# Altium schematic symbol library Connector.SchLib: 10 symbols
Pins are listed as number, name and electrical type; pins without a type are passive.

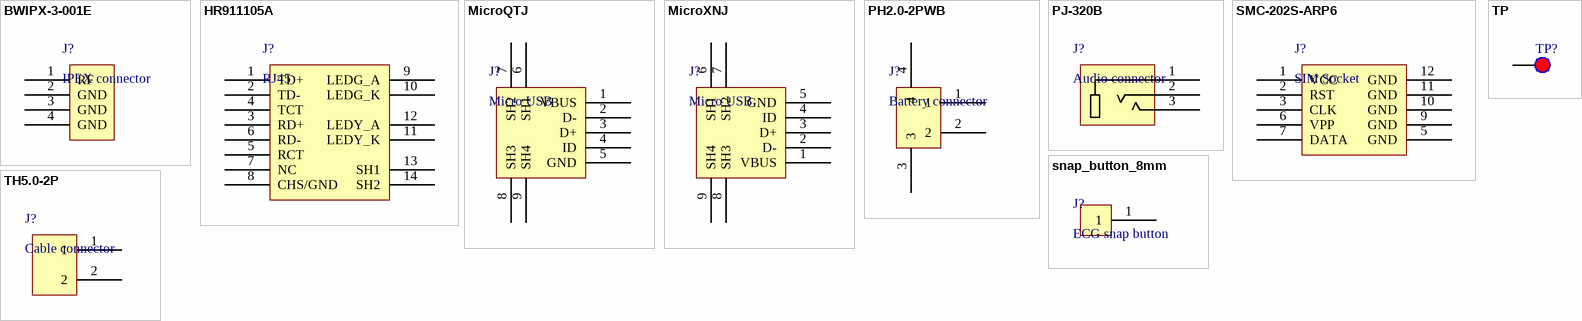
[diagram p0: symbols BWIPX-3-001E to TP]

## BWIPX-3-001E
designator J?, comment IPEX connector
ComponentLink1Description: Supplier; ComponentLink1URL: https://item.szlcsc.com/839642.html; Supplier: LC; SuppliersPartNumber: C784400; Package: SMD-IPEX
footprint smd-ipex
pins: 1 RF, 2 GND, 3 GND, 4 GND

## HR911105A
designator J?, comment RJ45
Package: SMD-MicorUSB-Hold; Supplier: LC; SuppliersPartNumber: C12074; ComponentLink1Description: Supplier; ComponentLink1URL: https://item.szlcsc.com/12651.html
footprint RJ45-TH
pins: 1 TD+, 2 TD-, 3 RD+, 4 TCT, 5 RCT, 6 RD-, 7 NC, 8 CHS/GND, 9 LEDG_A, 10 LEDG_K, 11 LEDY_K, 12 LEDY_A, 13 SH1, 14 SH2

## MicroQTJ
designator J?, comment Micro USB
Micro USB SMD; Package: SMD-MicorUSB-Hold; Supplier: LC; SuppliersPartNumber: C404968; ComponentLink1Description: Supplier; ComponentLink1URL: https://item.szlcsc.com/392533.html
footprint SMD-MicorUSB-hold
pins: 1 VBUS, 2 D-, 3 D+, 4 ID, 5 GND, 6 SH1, 7 SH2, 8 SH3, 9 SH4

## MicroXNJ
designator J?, comment Micro USB
Package: SMD-MicorUSB; Supplier: LC; SuppliersPartNumber: C404969; ComponentLink1Description: Supplier; ComponentLink1URL: https://item.szlcsc.com/392534.html
footprint SMD-MicorUSB
pins: 1 VBUS, 2 D-, 3 D+, 4 ID, 5 GND, 6 SH1, 7 SH2, 8 SH3, 9 SH4

## PH2.0-2PWB
designator J?, comment Battery connector
ComponentLink1Description: Supplier; ComponentLink1URL: https://item.szlcsc.com/48652.html; Supplier: LC; SuppliersPartNumber: C47647; Package: PH2.0-2PWB
footprint PH2.0-2PWB
pins: 1, 2, 3, 4

## PJ-320B
designator J?, comment Audio connector
ComponentLink1Description: Supplier; ComponentLink1URL: https://item.szlcsc.com/19296.html; Supplier: LC; SuppliersPartNumber: C18594; Package: Audio-SMD
footprint Audio_SMD
footprint Audio_SMD_NO_HOLD
pins: 1, 2, 3

## SMC-202S-ARP6
designator J?, comment SIM Socket
Cable connector; ComponentLink1Description: Supplier; ComponentLink1URL: https://item.szlcsc.com/998484.html; Supplier: LC; SuppliersPartNumber: C920199; Package: SMD-Micro-SIM-6P
footprint SMD-Micro-SIM-6P
pins: 1 VCC, 2 RST, 3 CLK, 5 GND, 6 VPP, 7 DATA, 9 GND, 10 GND, 11 GND, 12 GND

## snap_button_8mm
designator J?, comment ECG snap button
footprint ECG_SNAP_BUTTON
pins: 1

## TH5.0-2P
designator J?, comment Cable connector
ComponentLink1Description: Supplier; ComponentLink1URL: https://item.szlcsc.com/4105.html; Supplier: LC; SuppliersPartNumber: C3703; Package: TH5.0-2P
footprint TH5.0-2P
pins: 1, 2

## TP
designator TP?  (value not drawn)
Test point
footprint tp1
pins: 1 TP